# EAGLE library part FDS6990 (library transistor-fet)
FDS6990AS Dual 30V N-Channel http://www.fairchildsemi.com/ds/FD/FDS6990AS.pdf
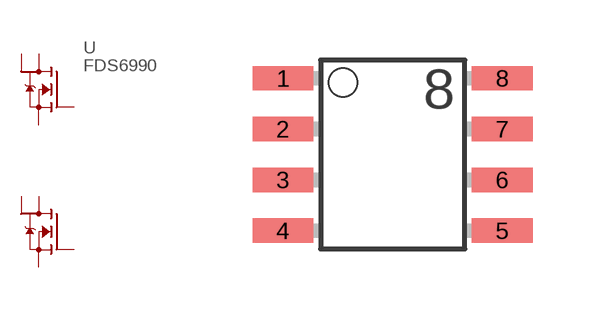
[diagram p8: symbol with the pads of SO-8; footprint SO-8]

Designator prefix -

## FDS6990  [SO-8]
1  S2  pas
2  G2  pas
3  S1  pas
4  G1  pas
5  D1-0  pas
6  D1-1  pas
7  D2-0  pas
8  D2-1  pas

## Footprint SO-8 (pad centres in mm)
SO 8 small outline
smd 1.524 x 0.61: 1 -2.743,1.905; 2 -2.743,0.635; 3 -2.743,-0.635; 4 -2.743,-1.905; 5 2.743,-1.905; 6 2.743,-0.635; 7 2.743,0.635; 8 2.743,1.905